# Altium footprint library SMPS.PcbLib: 3 footprints
Each footprint in its own frame and in the unit in brackets; x right, y up, seen from the top. Pads: shape width x height; smd on the part's side, far side on the other; paste and mask are expansions set on the pad; w line width, h text height; cw(c..) or ccw(c..) is an arc to the next point about the centre after c.
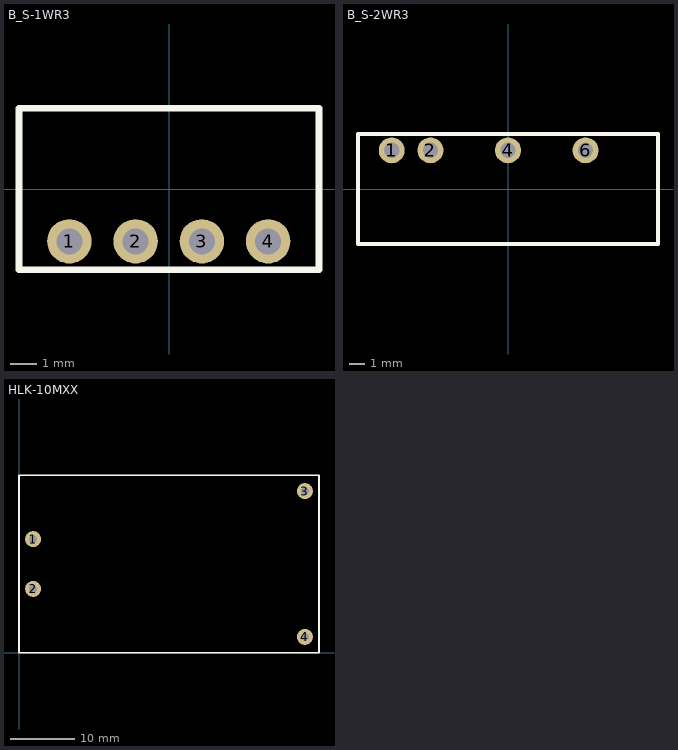
[diagram p0: the footprints below, top view; thin cyan lines are the x and y axes]

## B_S-1WR3 [mm] "Hi-Link / Mornsun / B_S-1WR3 series / DC-DC / Power Supply"
pads (4):
  round 1.7 hole 1: 1(-3.82,-2.005) 2(-1.28,-2.005) 3(1.26,-2.005) 4(3.8,-2.005)
Top Overlay:
  lines w0.254: -5.75,-3.095 -5.75,3.095 5.75,3.095 5.75,-3.095 -5.75,-3.095
3D body: height 7.5, standoff 0, extent -5.76,-3.095 5.74,3.095

## B_S-2WR3 [mm] "Hi-Link / Mornsun / B_S-1WR3 series / DC-DC / Power Supply"
pads (4):
  round 1.7 hole 1: 1(-7.62,2.56) 2(-5.08,2.56) 4(0,2.56) 6(5.08,2.56)
Top Overlay:
  lines w0.254: -9.83,-3.59 9.83,-3.59 9.83,3.64 -9.83,3.64 -9.83,-3.59
3D body: height 10.16, standoff 0, extent -9.83,-3.58 9.83,3.65

## HLK-10MXX [mm]
pads (4):
  round 2.5 hole 1.3: 1(2.2,17.8) 2(2.2,10) 3(44.7,25.3) 4(44.7,2.5)
Top Overlay:
  lines w0.254: 0,0 46.9,0 46.9,27.8 0,27.8 0,0
3D body: height 21.8, standoff 0, extent 0,0 46.9,27.8